# EAGLE library part KLEMME_2-4-FUSED_PD (library klemmen)
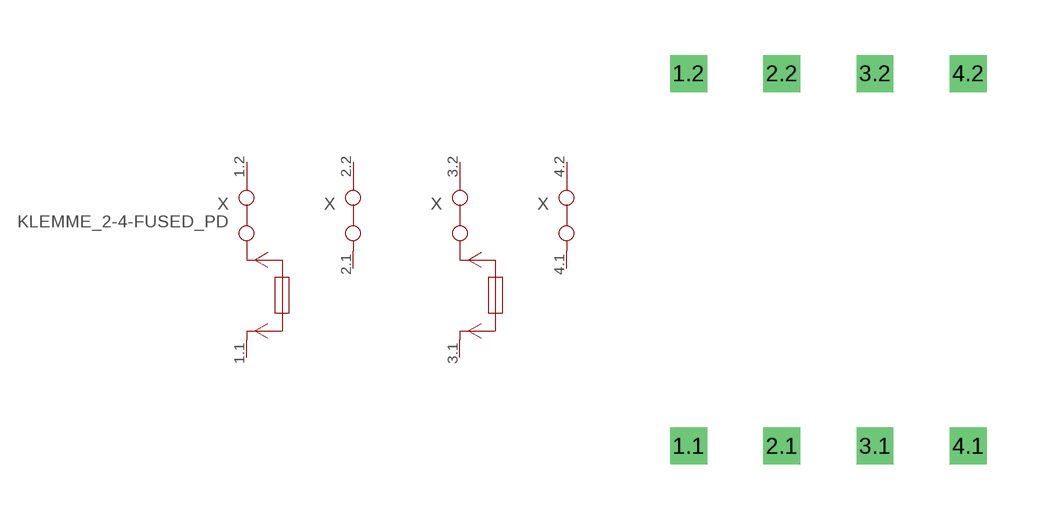
[diagram p0: symbol with the pads of KLEMME_1-4; footprint KLEMME_1-4]

Designator prefix X; gates 1=KLEMME_2-1-FUSED 2=KLEMME_2-1.2 4=KLEMME_2-1.2 3=KLEMME_2-1-FUSED.2

## KLEMME_2-4-FUSED_PD  [KLEMME_1-4]
1.1  1:1.1  pas
1.2  1:1.2  pas
2.1  2:1.1  pas
2.2  2:1.2  pas
3.1  3:1.1  pas
3.2  3:1.2  pas
4.1  4:1.1  pas
4.2  4:1.2  pas

## Footprint KLEMME_1-4 (pad centres in mm)
Dummy
drill 0.5 pad 1 square: 1.1 0,-12.7; 1.2 0,-2.54; 2.1 2.54,-12.7; 2.2 2.54,-2.54; 3.1 5.08,-12.7; 3.2 5.08,-2.54; 4.1 7.62,-12.7; 4.2 7.62,-2.54